# Altium footprint library Connector.PcbLib: 1 footprints
Each footprint in its own frame and in the unit in brackets; x right, y up, seen from the top. Pads: shape width x height; smd on the part's side, far side on the other; paste and mask are expansions set on the pad; w line width, h text height; cw(c..) or ccw(c..) is an arc to the next point about the centre after c.
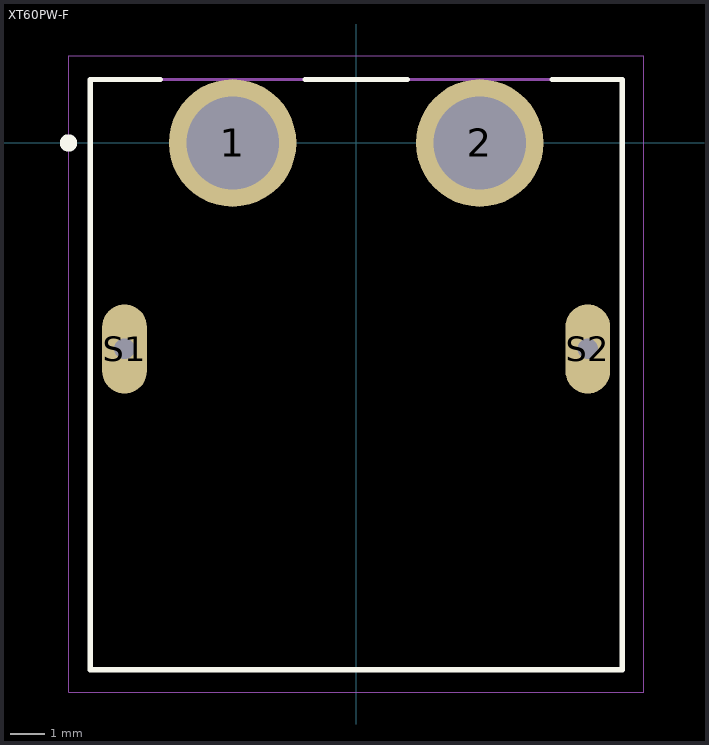
[diagram p0: the footprint, top view; thin cyan lines are the x and y axes]

## XT60PW-F [mm]
pads (4):
  round 3.716 hole 2.7: 1(-3.6,0) 2(3.6,0)
  oval 1.3x2.6 hole 0.6 square: S1(-6.75,-6) S2(6.75,-6)
Top Overlay:
  circle w0.254: c-8.382,0 r0.127
  lines w0.152: -5.71,1.85 -7.75,1.85 -7.75,-15.35 7.75,-15.35 7.75,1.85 5.71,1.85 ; -1.49,1.85 1.49,1.85
Mechanical 13:
  lines w0.076: -7.75,-15.35 -7.75,1.85 7.75,1.85 7.75,-15.35 -7.75,-15.35
Mechanical 15:
  lines w0.025: -8.382,-16.002 -8.382,2.54 8.382,2.54 8.382,-16.002 -8.382,-16.002
3D body "XT60PW-F.STEP": height 8.41, standoff -2.54, extent -7.753,-15.331 7.747,1.869